# EAGLE library part PINHD-2X3 (library Connectors)
PIN HEADER
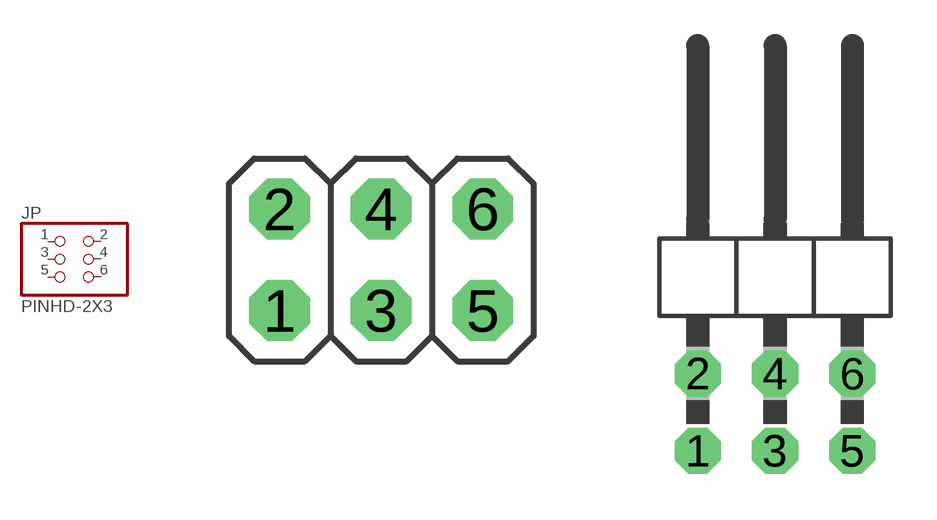
[diagram p26: symbol with the pads of 2X03; footprints 2X03, 2X03/90]

Designator prefix JP

## PINHD-2X3RH  [2X03]
1  1  pas
2  2  pas
3  3  pas
4  4  pas
5  5  pas
6  6  pas

## PINHD-2X390RH  [2X03/90]
Pads as for 2X03

## PINHD-2X3RH_SHROUD  [2X03K_3M]
Pads as for 2X03

## PINHD-2X3ISP  [2X03_ISP]
5V  2  pas
GND  6  pas
MISO  1  pas
MOSI  4  pas
RESET  5  pas
SCK  3  pas

## PINHD-2X3EDGE  [2X03_EDGE]
Pads as for 2X03

## Footprint 2X03 (pad centres in mm)
PIN HEADER
drill 1.016 octagon: 1 -2.54,-1.27; 2 -2.54,1.27; 3 0,-1.27; 4 0,1.27; 5 2.54,-1.27; 6 2.54,1.27

## Footprint 2X03/90 (pad centres in mm)
PIN HEADER
drill 1.016 octagon: 1 -2.54,-6.35; 2 -2.54,-3.81; 3 0,-6.35; 4 0,-3.81; 5 2.54,-6.35; 6 2.54,-3.81

## Footprint 2X03K_3M (pad centres in mm)
drill 1 pad 1.676: 1 -2.54,-1.397; 2 -2.54,1.397; 3 0,-1.27; 4 0,1.27; 5 2.54,-1.397; 6 2.54,1.397

## Footprint 2X03_ISP (pad centres in mm)
drill 1 pad 1.676: 5V -2.54,1.397; GND 2.54,1.397; MISO -2.54,-1.397; MOSI 0,1.27; RESET 2.54,-1.397; SCK 0,-1.27

## Footprint 2X03_EDGE (pad centres in mm)
smd 5.08 x 2.032: 1 0,2.54; 2 0,0; 3 0,-2.54
smd 5.08 x 2.032 bottom: 4 0,-2.54; 5 0,0; 6 0,2.54